# EAGLE library part RD-HC-SD027 (library Taimag)
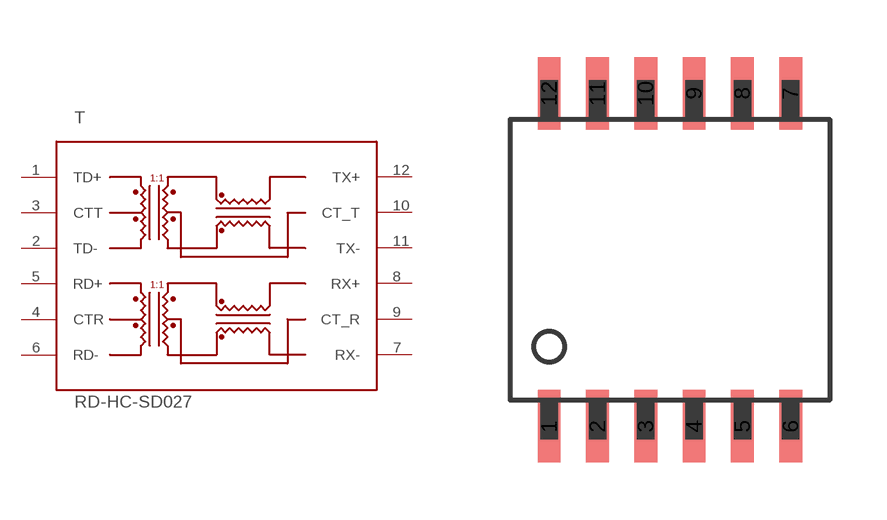
[diagram p1: symbol with the pads of SO12W; footprint SO12W]

Designator prefix T

## RD-HC-SD027  [SO12W]
1  TD+
2  TD-
3  CTT
4  CTR
5  RD+
6  RD-
7  RX-
8  RX+
9  CT_R
10  CT_T
11  TX-
12  TX+

## Footprint SO12W (pad centres in mm)
smd 0.6 x 1.91: 1 -3.175,-4.38; 2 -1.905,-4.38; 3 -0.635,-4.38; 4 0.635,-4.38; 5 1.905,-4.38; 6 3.175,-4.38; 7 3.175,4.38; 8 1.905,4.38; 9 0.635,4.38; 10 -0.635,4.38; 11 -1.905,4.38; 12 -3.175,4.38